# Altium footprint library PIXHAWK.PcbLib: 55 footprints (part 4 of 4)
Each footprint in its own frame and in the unit in brackets; x right, y up, seen from the top. Pads: shape width x height; smd on the part's side, far side on the other; paste and mask are expansions set on the pad; w line width, h text height; cw(c..) or ccw(c..) is an arc to the next point about the centre after c.
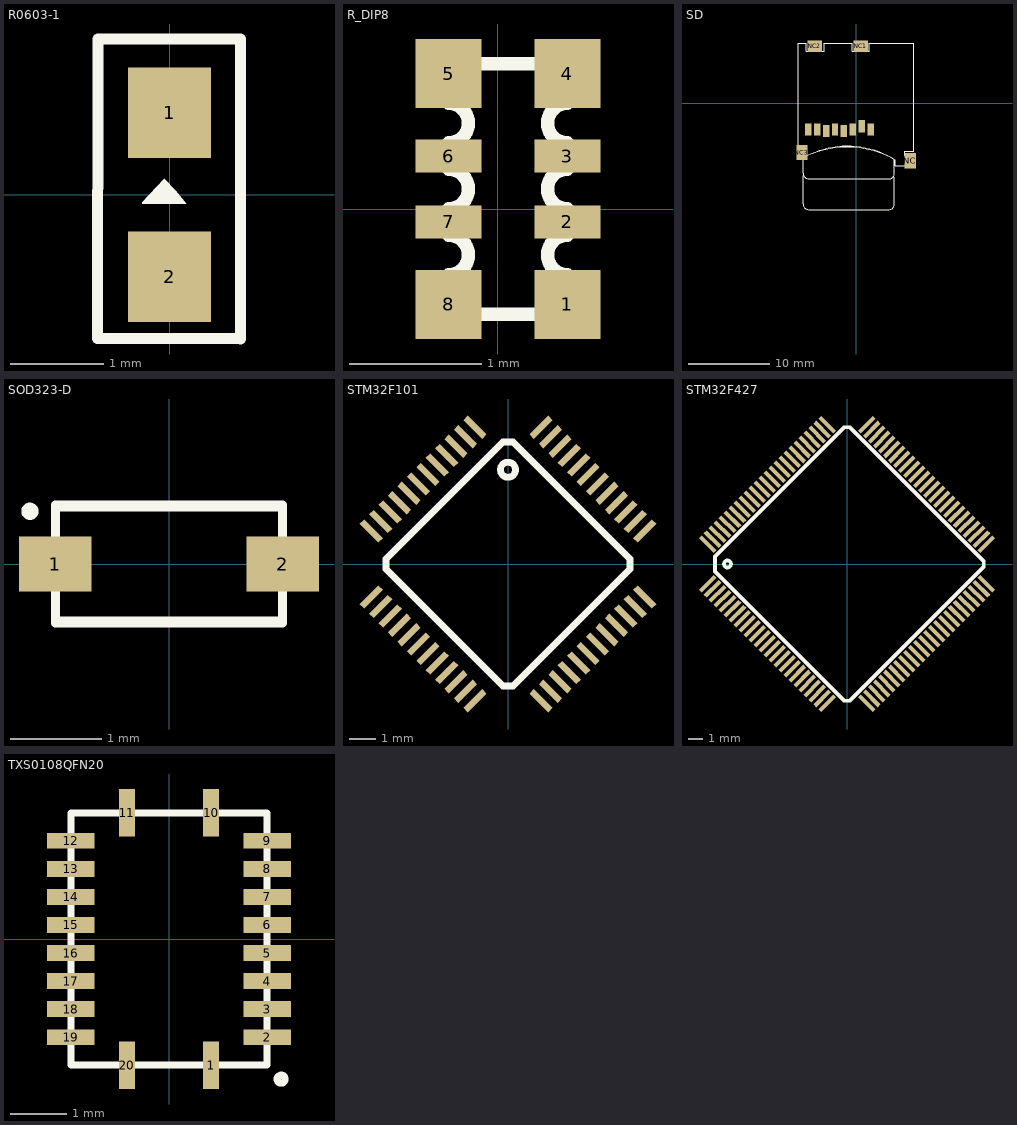
[diagram p3: the footprints below, top view; thin cyan lines are the x and y axes]

## R0603-1 [mil]
pads (2):
  rect 35x38 smd: 1(0,34.5) 2(0,-34.5)
Top Overlay:
  region: -2.2,6.67 -11.5,-3.27 -11.5,-3.73 6.9,-3.73 2.5,1.62
  lines w4.72: -30.2,65.05 -30.4,-60.55 29.85,-60.55 ; -30.2,65.55 29.85,65.55 29.85,-60.75

## R_DIP8 [mm]
pads (8):
  rect 0.5x0.525 smd: 1(0.526,-0.72) 4(0.526,1.03) 5(-0.374,1.03) 8(-0.374,-0.72)
  rect 0.5x0.25 smd: 2(0.526,-0.095) 3(0.526,0.405) 6(-0.374,0.405) 7(-0.374,-0.095)
Top Overlay:
  lines w0.102: -0.374,-0.495 ccw(c-0.374,-0.345) -0.224,-0.345 ccw(c-0.374,-0.345) -0.374,-0.195 -0.374,0.005 ccw(c-0.374,0.155) -0.224,0.155 ccw(c-0.374,0.155) -0.374,0.305 ; -0.374,-0.495 -0.374,-0.795 0.526,-0.795 0.526,-0.495 ; -0.374,0.305 -0.374,0.505 ccw(c-0.374,0.655) -0.224,0.655 ccw(c-0.374,0.655) -0.374,0.805 -0.374,1.105 0.526,1.105 0.526,0.805 ccw(c0.526,0.655) 0.376,0.655 ccw(c0.526,0.655) 0.526,0.505 0.526,0.305 ; -0.024,-0.795 0.176,-0.795 ; -0.024,1.105 0.176,1.105 ; 0.526,-0.495 cw(c0.526,-0.345) 0.376,-0.345 cw(c0.526,-0.345) 0.526,-0.195 0.526,0.005 cw(c0.526,0.155) 0.376,0.155 cw(c0.526,0.155) 0.526,0.305

## SD [mm]
pads (12):
  rect 0.8x1.5 smd: 1(1.79,-3.225) 2(0.69,-2.825) 3(-0.41,-3.225) 4(-1.51,-3.425) 5(-2.61,-3.225) 6(-3.71,-3.425) 7(-4.81,-3.225) 8(-5.91,-3.225)
  rect 1.4x1.9 smd: NC(6.7,-7.075) NC3(-6.7,-6.075)
  rect 1.8x1.4 smd: NC1(0.6,7.075) NC2(-5.1,7.075)
Top Overlay:
  lines w0.008: -6.55,-12.418 -6.55,-8.925 ; -6.55,-8.618 -6.55,-6.825 ; -6.55,-12.418 ccw(c-5.843,-12.418) -5.843,-13.125 4.11,-13.125 ccw(c4.11,-12.485) 4.75,-12.485 4.75,-9.125 ; -6.55,-8.618 ccw(c-5.843,-8.618) -5.843,-9.325 ; -5.843,-9.325 4.11,-9.325 ccw(c4.11,-8.685) 4.75,-8.685 4.75,-6.925
  lines w0.127: -7.15,-4.325 -7.15,7.475 ; -6.55,-6.725 -6.65,-6.825 -7.15,-6.825 -7.15,7.475 ; -6.55,-6.725 cw(c-1.124,-17.276) 4.85,-7.025 ; -6.275,7.475 -7.15,7.475 ; -5.611,-6.298 cw(c-1.044,-16.205) 4.85,-7.025 4.85,-7.725 7.15,-7.725 7.15,-6.425 6.05,-6.425 6.05,-5.925 7.15,-5.925 7.15,7.475 ; -3.825,7.475 -0.575,7.475 ; 1.9,7.475 7.15,7.475 ; 7.15,-5.425 7.15,7.475 ; -7.15,7.475 -6.15,7.475 -6.15,6.475 -5.75,6.475 -5.75,7.475 -4.25,7.475 -4.25,6.475 -3.95,6.475 -3.95,7.475 -0.45,7.475 -0.45,6.475 -0.05,6.475 -0.05,7.475 1.35,7.475 1.35,6.475 1.65,6.475 1.65,7.475 7.15,7.475

## SOD323-D [mm]
pads (2):
  rect 0.8x0.6 smd: 1(-1.25,0) 2(1.25,0)
Top Overlay:
  circle w0.1: c-1.53,0.58 r0.045
  lines w0.1: -1.25,-0.5 -1.25,-0.65 1.25,-0.65 1.25,-0.5 ; -1.25,0.5 -1.25,0.65 1.25,0.65 1.25,0.5 ; -1.25,-0.625 1.25,-0.625 1.25,0.625 -1.25,0.625 -1.25,-0.625

## STM32F101 [mm]
pads (48):
  rect 0.24x1 smd rot 45: 1(-1.237,5.127) 2(-1.591,4.773) 3(-1.945,4.419) 4(-2.298,4.066) 5(-2.652,3.712) 6(-3.005,3.359) 7(-3.359,3.005) 8(-3.712,2.652) 9(-4.066,2.298) 10(-4.419,1.945) 11(-4.773,1.591) 12(-5.126,1.237) 25(1.237,-5.127) 26(1.591,-4.773) 27(1.945,-4.419) 28(2.298,-4.066) 29(2.652,-3.712) 30(3.005,-3.359) 31(3.359,-3.005) 32(3.712,-2.652) 33(4.066,-2.298) 34(4.419,-1.945) 35(4.773,-1.591) 36(5.126,-1.237)
  rect 1x0.24 smd rot 45: 13(-5.126,-1.237) 14(-4.773,-1.591) 15(-4.419,-1.945) 16(-4.066,-2.298) 17(-3.712,-2.652) 18(-3.359,-3.005) 19(-3.005,-3.359) 20(-2.652,-3.712) 21(-2.298,-4.066) 22(-1.945,-4.419) 23(-1.591,-4.773) 24(-1.237,-5.127) 37(5.126,1.237) 38(4.773,1.591) 39(4.419,1.945) 40(4.066,2.298) 41(3.712,2.652) 42(3.359,3.005) 43(3.005,3.359) 44(2.652,3.712) 45(2.298,4.066) 46(1.945,4.419) 47(1.591,4.773) 48(1.237,5.127)
Top Overlay:
  circle w0.254: c0,3.536 r0.283
  lines w0.254: -4.579,-0.194 -0.195,-4.579 0.195,-4.579 4.579,-0.194 4.579,0.194 0.195,4.579 -0.195,4.579 -4.579,0.194 -4.579,-0.194

## STM32F427 [mm]
pads (100):
  rect 1.5x0.29 smd rot 45: 1(-9.899,-1.414) 2(-9.546,-1.768) 3(-9.193,-2.121) 4(-8.839,-2.475) 5(-8.485,-2.828) 6(-8.132,-3.182) 7(-7.778,-3.536) 8(-7.425,-3.889) 9(-7.071,-4.243) 10(-6.718,-4.596) 11(-6.364,-4.95) 12(-6.01,-5.303) 13(-5.657,-5.657) 14(-5.303,-6.01) 15(-4.95,-6.364) 16(-4.596,-6.718) 17(-4.243,-7.071) 18(-3.889,-7.425) 19(-3.535,-7.778) 20(-3.182,-8.132) 21(-2.829,-8.485) 22(-2.475,-8.839) 23(-2.121,-9.192) 24(-1.768,-9.546) 25(-1.414,-9.899) 51(9.899,1.414) 52(9.546,1.768) 53(9.193,2.121) 54(8.839,2.475) 55(8.485,2.828) 56(8.132,3.182) 57(7.778,3.536) 58(7.425,3.889) 59(7.071,4.243) 60(6.718,4.596) 61(6.364,4.95) 62(6.01,5.303) 63(5.657,5.657) 64(5.303,6.01) 65(4.95,6.364) 66(4.596,6.718) 67(4.243,7.071) 68(3.889,7.425) 69(3.535,7.778) 70(3.182,8.132) 71(2.829,8.485) 72(2.475,8.839) 73(2.121,9.192) 74(1.768,9.546) 75(1.414,9.899)
  rect 0.29x1.5 smd rot 45: 26(1.414,-9.899) 27(1.768,-9.546) 28(2.121,-9.192) 29(2.475,-8.839) 30(2.829,-8.485) 31(3.182,-8.132) 32(3.535,-7.778) 33(3.889,-7.425) 34(4.243,-7.071) 35(4.596,-6.718) 36(4.95,-6.364) 37(5.303,-6.01) 38(5.657,-5.657) 39(6.01,-5.303) 40(6.364,-4.95) 41(6.718,-4.596) 42(7.071,-4.243) 43(7.425,-3.889) 44(7.778,-3.536) 45(8.132,-3.182) 46(8.485,-2.828) 47(8.839,-2.475) 48(9.193,-2.121) 49(9.546,-1.768) 50(9.899,-1.414) 76(-1.414,9.899) 77(-1.768,9.546) 78(-2.121,9.192) 79(-2.475,8.839) 80(-2.829,8.485) 81(-3.182,8.132) 82(-3.535,7.778) 83(-3.889,7.425) 84(-4.243,7.071) 85(-4.596,6.718) 86(-4.95,6.364) 87(-5.303,6.01) 88(-5.657,5.657) 89(-6.01,5.303) 90(-6.364,4.95) 91(-6.718,4.596) 92(-7.071,4.243) 93(-7.425,3.889) 94(-7.778,3.536) 95(-8.132,3.182) 96(-8.485,2.828) 97(-8.839,2.475) 98(-9.193,2.121) 99(-9.546,1.768) 100(-9.899,1.414)
Top Overlay:
  circle w0.254: c-8.485,0 r0.25
  lines w0.254: -9.369,-0.53 -0.177,-9.723 0.177,-9.723 9.723,-0.177 9.723,0.177 0.177,9.723 -0.177,9.723 -9.369,0.53 -9.369,-0.53

## TXS0108QFN20 [mm]
pads (20):
  rect 0.28x0.85 smd: 1(0.75,-2.25) 10(0.75,2.25) 11(-0.75,2.25) 20(-0.75,-2.25)
  rect 0.85x0.28 smd: 2(1.75,-1.75) 3(1.75,-1.25) 4(1.75,-0.75) 5(1.75,-0.25) 6(1.75,0.25) 7(1.75,0.75) 8(1.75,1.25) 9(1.75,1.75) 12(-1.75,1.75) 13(-1.75,1.25) 14(-1.75,0.75) 15(-1.75,0.25) 16(-1.75,-0.25) 17(-1.75,-0.75) 18(-1.75,-1.25) 19(-1.75,-1.75)
Top Overlay:
  circle w0.127: c2,-2.5 r0.071
  lines w0.127: -1.75,-2.25 1.75,-2.25 1.75,2.25 -1.75,2.25 -1.75,-2.25